# Altium schematic symbol library PBL - Fuses and Protection.SCHLIB: 11 symbols
Pins are listed as number, name and electrical type; pins without a type are passive.

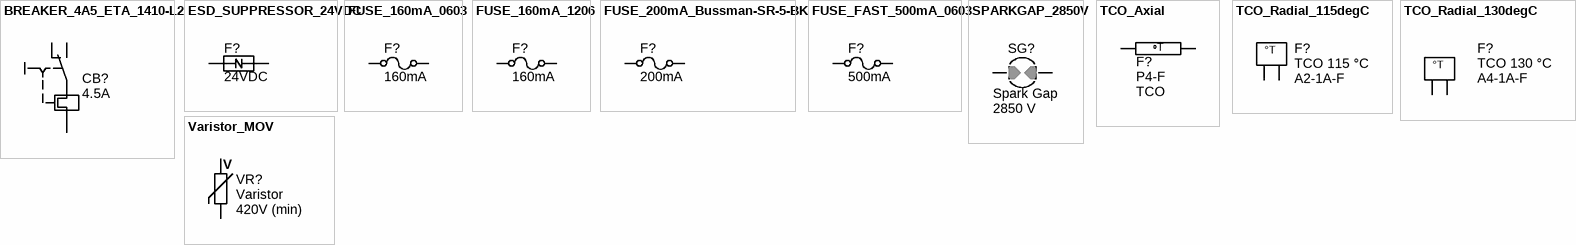
[diagram p0: symbols BREAKER_4A5_ETA_1410-L2 to Varistor_MOV]

## BREAKER_4A5_ETA_1410-L2
designator CB?, comment value 4.5A  (hidden comment: thermal breaker)
Circuit breaker 4.5A PCB mount; Manufacturer 1: E-T-A; Manufacturer Part Number 1: 1410-L210-L2F1-S02-4.5A; Ratings: 4.5A; 28VDC; 240VAC; Voltage: 28VDC, 240VAC; Supplier 1: Digi-Key; Supplier Part Number 1: 302-1036-ND; Current - Trip (It): 4.5A
footprint BREAKER_1410-L2 (E-T-A Thermal Overcurrent Circuit Breaker 1410-L2)
pins: 1, 2, 3

## ESD_SUPPRESSOR_24VDC
designator F?, comment value 24VDC  (hidden comment: ESD suppressor)
ESD Suppressor 24VDC 0603 SMD; Manufacturer 1: Cooper Bussmann; Manufacturer Part Number 1: 0603ESDA-TR1; Voltage - Working: 24V; Voltage - Clamping: 35V; Package / Case: 0603 (1608 metric); Supplier 1: Digi-Key; Supplier Part Number 1: 283-2535-1-ND; ComponentLink1URL: http://www.cooperindustries.com/content/dam/public/bussmann/Electronics/Resources/Data%20Sheets/Bus_Elx_DS_4082_0603ESDA-TR.pdf; ComponentLink1Description: http://www.cooperindustries.com/content/dam/public/bussmann/Electronics/Resources/Data%20Sheets/Bus_Elx_DS_4082_0603ESDA-TR.pdf
footprint 0603ESDA (Chip ESD suppressor, Body 1.6x0.8mm, 0603, IPC Medium Density)
pins: 1, 2

## FUSE_160mA_0603
designator F?, comment value 160mA  (hidden comment: Slow-blow)
Fuse 160mA 63VDC 0603 SMD; Manufacturer 1: Holly Fuse; Manufacturer Part Number 1: 06T-0160L; Ratings: 160mA; 63VDC; slow-blow; Package / Case: 0603 (1608 metric)
footprint RESC1608N (Chip Resistor, Body 1.6x0.8mm, 0603, IPC Medium Density)
pins: 1, 2

## FUSE_160mA_1206
designator F?, comment value 160mA  (hidden comment: Slow-blow)
Fuse 160mA 63VDC 1206 SMD; Manufacturer 1: Holly Fuse; Manufacturer Part Number 1: 12T-0160L; Ratings: 160mA; 63VDC; slow-blow; Package / Case: 1206 (3216 metric)
footprint RESC3216N (Chip Resistor, Body 3.2x1.6mm, IPC Medium Density)
pins: 1, 2

## FUSE_200mA_Bussman-SR-5-BK
designator F?, comment value 200mA  (hidden comment: Slow-blow)
Fuse 200mA 250VAC Radial 5.08mm pitch; Manufacturer 1: Cooper Bussmann; Manufacturer Part Number 1: SR-5-200MA-BK; Ratings: 200mA; 250VAC; slow-blow; Package / Case: Radial 5.08mm pitch; Supplier 1: Mouser; Supplier Part Number 1: 504-SR-5-200MA-BK
footprint FUSE_SR-5-BK
pins: 1, 2

## FUSE_FAST_500mA_0603
designator F?, comment value 500mA  (hidden comment: Fast Acting)
Fuse 500mA 32VDC 0603 SMD; Manufacturer: AVX Corporation; Manufacturer Part Number: F0603E0R50FSTR; Ratings: 500mA; 32VDC; fast acting; DC Cold Resistance: 0.25 Ohm; Package / Case: 0603 (1608 metric); Fuse Type: Fast Acting; ComponentLink1URL: http://www.avx.com/docs/Catalogs/accug2.pdf; ComponentLink1Description: http://www.avx.com/docs/Catalogs/accug2.pdf; Supplier 1: Digi-Key; Supplier Part Number 1: 478-2860-1-ND; Operating Temperature: -55°C ~ 125°C
footprint RESC1608N (Chip Resistor, Body 1.6x0.8mm, 0603, IPC Medium Density)
pins: 1, 2

## SPARKGAP_2850V
designator SG?, comment Spark Gap  value 2850 V  (no BOM)
Fuse 160mA 63VDC 1206 SMD
footprint Spark-Gap_2850V (Spark gap, voltage approx 2850 per (3000 pd + 1350))
pins: 1, 2

## TCO_Axial
designator F?, comment TCO  Manufacturer Part Number 1: P4-F
Thermal cutoff axial 2 Amp 130 deg C; Manufacturer 1: Aupo; Ratings: 130°C; 2.0A; 250Vac; Package / Case: diam. 2.1 x 6.5mm
footprint AUPO_P-4F_BEND1 (Aupo P-4F TCO for positioning on IC legs)
footprint AUPO_P-4F_BEND2 (Aupo P-4F TCO for positioning on IC legs)
footprint AUPO_P-4F_BEND3 (Aupo P-4F TCO for positioning on IC legs)
footprint AUPO_P-4F_BEND4 (Aupo P-4F TCO for positioning on IC legs)
footprint AUPO_P-4F_BEND5 (Aupo P-4F TCO for positioning on IC legs)
pins: 1, 2
text: T

## TCO_Radial_115degC
designator F?, comment TCO 115 °C  Manufacturer Part Number 1: A2-1A-F
Thermal cutoff radial 1 Amp 115 degrees C; Manufacturer 1: Aupo; Ratings: 115°C; 1.0A; 250Vac; Package / Case: 5.2W x 4.0H x 3.5mm Pitch
footprint TCO_Aupo_Ax-1A_Radial_THD (thermal fuse, Ax-1A)
pins: 1, 2
text: °T

## TCO_Radial_130degC
designator F?, comment TCO 130 °C  Manufacturer Part Number 1: A4-1A-F
Thermal cutoff radial 1 Amp 130 degrees C; Manufacturer 1: Aupo; Ratings: 130°C; 1.0A; 250Vac; Package / Case: 5.2W x 4.0H x 3.5mm Pitch
pins: 1, 2
text: °T

## Varistor_MOV
designator VR?, comment Varistor  Ratings: 420V (min)
Varistor 420V min; Manufacturer 1: Bourns Inc.; Manufacturer Part Number 1: MOV-10D621K; Voltage: 620V; Supplier 1: Digi-Key; Supplier Part Number 1: MOV-10D621K-ND
footprint Varistor_7.62and10mm (Capacitor, Ceramic, Thru-Hole, Dipped Radial; Body 6.8 x 3 mm (WxT) Pin Spacing 7.62 mm (typ))
pins: 1, 2
text: V